# Altium footprint library Capacitor_updated.PcbLib: 42 footprints (part 1 of 3)
Each footprint in its own frame and in the unit in brackets; x right, y up, seen from the top. Pads: shape width x height; smd on the part's side, far side on the other; paste and mask are expansions set on the pad; w line width, h text height; cw(c..) or ccw(c..) is an arc to the next point about the centre after c.
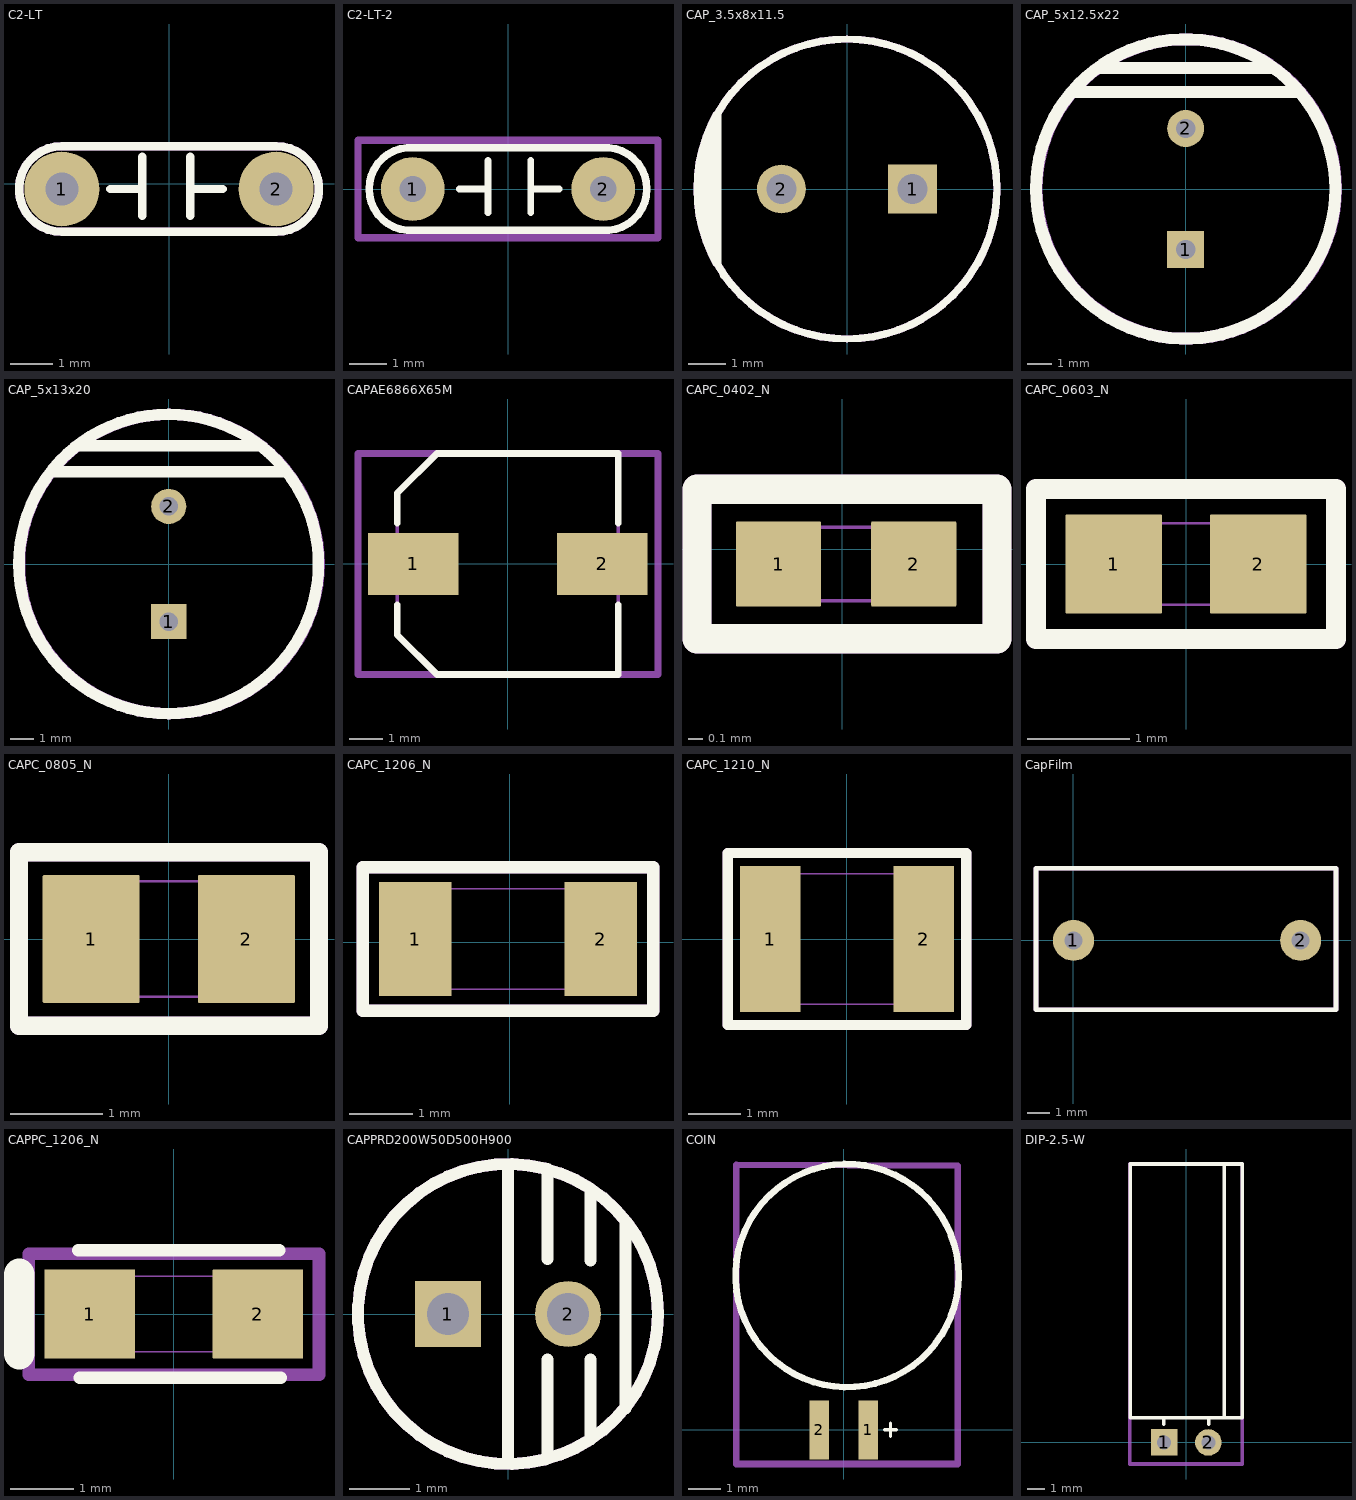
[diagram p0: the footprints below, top view; thin cyan lines are the x and y axes]

## C2-LT [mil]
height 200
pads (2):
  round 70 hole 31: 1(-100,-5) 2(100,-5)
Top Overlay:
  lines w7.87: -55,-5 -25,-5 ; -25,-30 -25,25 ; 20,-30 20,25 ; 20,-5 50,-5 ; -100,-45 cw(c-100,-5) -100,35 100,35 cw(c100,-5) 100,-45 -100,-45
Mechanical 13:
  lines w7.87: -100,-45 cw(c-100,-5) -100,35 100,35 cw(c100,-5) 100,-45 -100,-45
  text ".Designator" at -51.38,-11.06 h39.37
3D body "User Library-0,1uF Capacitor 5,08 mm.step": height 275.59, standoff -54.72, extent -109.84,-48.3 109.84,38.7

## C2-LT-2 [mm]
height 5.08
pads (2):
  round 1.7 hole 0.7: 1(-2.54,0) 2(2.54,0)
Top Overlay:
  lines w0.178: -1.297,0 -0.535,0 ; -0.535,-0.635 -0.535,0.762 ; 0.608,-0.635 0.608,0.762 ; 0.608,0 1.37,0
  lines w0.2: -2.5,-1.1 cw(c-2.6,0) -2.5,1.1 2.5,1.1 cw(c2.6,0) 2.5,-1.1 -2.5,-1.1
Mechanical 13:
  lines w0.2: -4,-1.3 4,-1.3 4,1.3 -4,1.3 -4,-1.3
  text ".Designator" at -3.581,-0.381 h1.5
3D body "tu hoa 5mm.step": height 10.35, standoff -2.22, extent -3.961,-1.265 4.039,1.245

## CAP_3.5x8x11.5 [mm] "Aluminum Electrolytic Capacitors, 8x14mm"
height 14
pads (2):
  rect 1.3x1.3 hole 0.8: 1(1.75,0)
  round 1.3 hole 0.8: 2(-1.75,0)
Top Overlay:
  circle w0.2: c0,0 r4
  region: -3.353,2.261 -3.353,-2.391 -3.99,-0.7 -3.99,0.7
Mechanical 13:
  circle w0.2: c0,0 r4
  text ".Designator" at -1.705,1.019 h1
3D body "CAP.STEP": height 13.01, standoff -2, extent -4.005,-4 4.005,4

## CAP_5x12.5x22 [mm]
pads (2):
  rect 1.524x1.524 hole 0.8: 1(0,-2.5)
  round 1.524 hole 0.8: 2(0,2.5)
Top Overlay:
  circle w0.5: c0,0 r6.183
  lines w0.5: -4.6,4 4.7,4 ; -3.5,5 3.6,5
Mechanical 13:
  circle w0.5: c0.025,0 r6.183
  text ".Designator" at -4.554,-0.413 h2
3D body "CP_Radial_D13.0mm_H20.0mm_P5.00mm.step": height 20, standoff -3, extent -6.499,-6.533 6.5,6.477

## CAP_5x13x20 [mm]
pads (2):
  rect 1.524x1.524 hole 0.8: 1(0,-2.5)
  round 1.524 hole 0.8: 2(0,2.5)
Top Overlay:
  circle w0.5: c0,0 r6.5
  lines w0.5: -5.108,4 5.092,4 ; -3.881,5.127 3.919,5.127
Mechanical 13:
  circle w0.5: c0.025,0 r6.5
  text ".Designator" at -4.554,-0.413 h2
3D body "CP_Radial_D13.0mm_H20.0mm_P5.00mm.step": height 20, standoff -3, extent -6.499,-6.533 6.5,6.477

## CAPAE6866X65M [mm] "Aluminum Electrolytic Capacitor, Body 6.60x6.60x6.50mm, IPC Low Density"
height 6.5
pads (2):
  rect 2.7x1.85 smd: 1(-2.825,0) 2(2.825,0)
Top Overlay:
  lines w0.2: -3.3,-1.225 -3.3,-2.113 -2.113,-3.3 3.3,-3.3 3.3,-1.225 ; -3.3,1.225 -3.3,2.113 -2.113,3.3 3.3,3.3 3.3,1.225
Mechanical 13:
  lines w0.1: -3.3,-2.113 -2.113,-3.3 3.3,-3.3 3.3,3.3 -2.113,3.3 -3.3,2.113 -3.3,-2.113
  lines w0.2: -4.47,-3.302 -4.47,3.3 4.489,3.3 4.489,-3.302 -4.47,-3.302
  text ".Designator" at -2.337,1.397 h1
3D body "CAPAE6866X65M.step": height 6.5, standoff 0, extent -3.4,-3.3 3.4,3.3

## CAPC_0402_N [mm] "Capacitor, Chip; 1.00 mm L X 0.50 mm W X 0.55 mm H body"
height 0.55
pads (2):
  rrect3% 0.58x0.58 smd: 1(-0.435,-0.102) 2(0.485,-0.102)
Top Overlay:
  lines w0.2: -0.991,-0.61 1.052,-0.61 1.052,-0.356 1.052,0.152 1.052,0.406 -0.991,0.406 -0.991,-0.61
Mechanical 12:
  lines w0.025: -0.475,-0.352 -0.225,-0.352 -0.225,0.148 -0.475,0.148 ; -0.475,-0.352 -0.475,0.148 ; -0.475,-0.352 -0.475,0.148 ; -0.475,-0.352 0.525,-0.352 ; -0.475,0.148 0.525,0.148 ; 0.525,-0.352 0.525,0.148 ; 0.525,-0.352 0.275,-0.352 0.275,0.148 0.525,0.148 ; 0.525,-0.352 0.525,0.148
Mechanical 13:
  lines w0.2: -0.991,-0.61 -0.991,0.406 1.052,0.406 1.052,0.152 1.052,-0.356 1.052,-0.61 -0.991,-0.61
  text ".Designator" at -0.991,-0.356 h1
3D body "CAPC100X50X55L25.STEP": height 0.55, standoff 0, extent -0.475,-0.352 0.526,0.148

## CAPC_0603_N [mm]
pads (2):
  rrect2% 0.95x0.97 smd: 1(-0.71,0) 2(0.71,0)
Top Overlay:
  lines w0.2: -1.473,-0.737 1.473,-0.737 1.473,0.737 -1.473,0.737 -1.473,-0.737
Mechanical 12:
  lines w0.025: -0.8,-0.4 0.8,-0.4 ; -0.8,-0.4 -0.8,0.4 ; -0.8,-0.4 -0.8,0.4 ; -0.8,-0.4 -0.4,-0.4 -0.4,0.4 -0.8,0.4 ; -0.8,0.4 0.8,0.4 ; 0.8,-0.4 0.8,0.4 ; 0.8,-0.4 0.4,-0.4 0.4,0.4 0.8,0.4 ; 0.8,-0.4 0.8,0.4
Mechanical 13:
  lines w0.2: -1.473,-0.737 1.473,-0.737 1.473,0.737 -1.473,0.737 -1.473,-0.737
  text ".Designator" at -1.346,-0.279 h1
3D body "CAPC160X80X80L40.STEP": height 0.8, standoff 0, extent -0.8,-0.4 0.8,0.4

## CAPC_0805_N [mm]
pads (2):
  rrect2% 1.05x1.38 smd: 1(-0.84,0) 2(0.84,0)
Top Overlay:
  lines w0.2: -1.621,-0.94 -1.621,0.94 1.626,0.94 1.626,-0.94 -1.621,-0.94
Mechanical 12:
  lines w0.025: -1,-0.625 1,-0.625 ; -1,-0.625 -1,0.625 ; -1,-0.625 -1,0.625 ; -1,-0.625 -0.5,-0.625 -0.5,0.625 -1,0.625 ; -1,0.625 1,0.625 ; 1,-0.625 1,0.625 ; 1,-0.625 0.5,-0.625 0.5,0.625 1,0.625 ; 1,-0.625 1,0.625
Mechanical 13:
  lines w0.2: -1.621,-0.94 -1.621,0.94 1.626,0.94 1.626,-0.94 -1.621,-0.94
  text ".Designator" at -1.397,-0.305 h1
3D body "CAPC200X125X95L50.STEP": height 0.95, standoff 0, extent -1,-0.625 1,0.625

## CAPC_1206_N [mm]
pads (2):
  rrect2% 1.16x1.82 smd: 1(-1.5,0.051) 2(1.45,0.051)
Top Overlay:
  lines w0.2: -2.337,-1.092 -2.337,1.194 2.286,1.194 2.286,-1.092 -2.337,-1.092
Mechanical 12:
  lines w0.025: -1.625,-0.749 -1.125,-0.749 -1.125,0.851 -1.625,0.851 ; -1.625,-0.749 -1.625,0.851 ; -1.625,-0.749 -1.625,0.851 ; -1.625,-0.749 1.575,-0.749 ; -1.625,0.851 1.575,0.851 ; 1.575,-0.749 1.575,0.851 ; 1.575,-0.749 1.075,-0.749 1.075,0.851 1.575,0.851 ; 1.575,-0.749 1.575,0.851
Mechanical 13:
  lines w0.2: -2.337,-1.092 -2.337,1.194 2.286,1.194 2.286,-1.092 -2.337,-1.092
  text ".Designator" at -1.93,-0.254 h1
3D body "CAPC320X160X115L50.STEP": height 1.15, standoff 0, extent -1.625,-0.749 1.575,0.851

## CAPC_1210_N [mm]
pads (2):
  rrect2% 1.16x2.81 smd: 1(-1.475,0) 2(1.475,0)
Top Overlay:
  lines w0.2: -2.286,-1.651 -2.286,1.651 2.286,1.651 2.286,-1.651 -2.286,-1.651
Mechanical 12:
  lines w0.025: -1.6,-1.25 1.6,-1.25 ; -1.6,-1.25 -1.6,1.25 ; -1.6,-1.25 -1.6,1.25 ; -1.6,-1.25 -1.1,-1.25 -1.1,1.25 -1.6,1.25 ; -1.6,1.25 1.6,1.25 ; 1.6,-1.25 1.6,1.25 ; 1.6,-1.25 1.1,-1.25 1.1,1.25 1.6,1.25 ; 1.6,-1.25 1.6,1.25
Mechanical 13:
  lines w0.2: -2.286,-1.651 -2.286,1.651 2.286,1.651 2.286,-1.651 -2.286,-1.651
  text ".Designator" at -1.905,-0.178 h1
3D body "CAPC320X250X180L50.STEP": height 1.8, standoff 0, extent -1.6,-1.25 1.6,1.25

## CapFilm [mm]
pads (2):
  round 1.8 hole 0.8: 1(0,0) 2(10,0)
Top Overlay:
  lines w0.2: -1.651,-3.048 -1.651,3.175 11.557,3.175 11.557,-3.048 -1.651,-3.048
Mechanical 13:
  lines w0.2: -1.651,-3.048 11.557,-3.048 11.557,3.175 -1.651,3.175 -1.651,-3.048
  text ".Designator" at 1.321,-0.051 h1.5
3D body "R46KF310050P0K.step": height 12.1, standoff -27, extent -1.647,-3.048 11.553,3.157

## CAPPC_1206_N [mm]
pads (2):
  rrect1% 1.44x1.42 smd: 1(-1.34,0) 2(1.34,0)
Top Overlay:
  lines w0.2: -1.524,1.016 1.676,1.016 ; -1.499,-1.016 1.702,-1.016
  lines w0.5: -2.464,-0.635 -2.464,0.635
Mechanical 12:
  lines w0.025: -1.6,-0.6 -0.8,-0.6 -0.8,0.6 -1.6,0.6 ; -1.6,-0.6 -1.6,0.6 ; -1.6,-0.6 -1.6,0.6 ; -1.6,-0.6 1.6,-0.6 ; -1.6,0.6 1.6,0.6 ; 1.6,-0.6 1.6,0.6 ; 1.6,-0.6 0.8,-0.6 0.8,0.6 1.6,0.6 ; 1.6,-0.6 1.6,0.6
Mechanical 13:
  lines w0.2: -2.311,-0.965 2.311,-0.965 2.311,0.961 -2.311,0.961 -2.311,-0.965
  text ".Designator" at -2.083,-0.279 h1
3D body "T491A106K016AT.step": height 1.81, standoff 0.01, extent -1.675,-0.911 1.725,0.889

## CAPPRD200W50D500H900 [mm] "Capacitor, Polarized, Radial (Electrolytic); 2.00 mm C X 5.00 mm Dia X 9.00 mm H body"
height 9
pads (2):
  rect 1.1x1.1 / inner round 1.1 / far side rect 1.1x1.1 hole 0.7 paste-1.1: 1(-1,0)
  round 1.1 hole 0.7 paste-1.1: 2(1,0)
Top Overlay:
  circle w0.2: c0,0 r2.5
  lines w0.2: 0,-2.489 0,2.489 ; 0.66,-2.411 0.66,-0.762 ; 0.66,0.914 0.66,2.413 ; 1.372,-2.09 1.372,-0.762 ; 1.372,0.889 1.372,2.057 ; 1.956,-1.575 1.956,1.549
Mechanical 13:
  circle w0.2: c0,0 r2.5
  text ".Designator" at -2.007,-0.457 h1
3D body "CAPPRD200W50D500H900.STEP": height 9.01, standoff -2, extent -2.5,-2.5 2.51,2.5

## COIN [mm]
pads (2):
  rect 0.6x1.8 smd: 1(0.75,0) 2(-0.75,0)
Top Overlay:
  circle w0.2: c0.1,4.7 r3.4
  lines w0.1: 1.25,0 1.6,0 ; 1.425,-0.2 1.425,0.2
Mechanical 13:
  lines w0.2: -3.277,-1.041 -3.277,8.077 3.48,8.052 3.48,-1.041 -3.277,-1.041
  text ".Designator" at -3.251,4.039 h1.5
3D body: height 0.2, standoff 0, extent -1.05,-0.3 -0.45,1.45
3D body: height 0.2, standoff 0, extent 0.45,-0.3 1.05,1.45
3D body: height 2.6, standoff 0, extent -3.25,1.3 3.55,8.1

## DIP-2.5-W [mm]
pads (2):
  rect 1.5x1.5 hole 0.8: 1(-1.25,0)
  round 1.5 hole 0.8: 2(1.25,0)
Top Overlay:
  lines w0.2: -1.27,1.016 -1.27,1.397 ; 1.27,1.016 1.27,1.397 ; 2.159,1.397 2.159,15.748 ; -3.175,1.397 3.175,1.397 3.175,15.748 -3.175,15.748 -3.175,1.397
Mechanical 13:
  lines w0.2: -3.2,-1.219 3.175,-1.219 3.175,15.748 -3.2,15.748 -3.2,-1.219
  text ".Designator" at 0.686,2.896 h2
3D body "CAPPRD250W60D660H13002.STEP": height 6.48, standoff -0.12, extent -3.302,0.795 3.308,15.805
3D body "User Library-Cap electro 6_3x11x2_5mm RA.step": height 6.38, standoff -2.8, extent -3.175,-0.271 3.176,13.05